# Altium integrated library MOTOR DRIVER.IntLib: 1 symbol
Pins are listed as number, name and electrical type; pins without a type are passive.

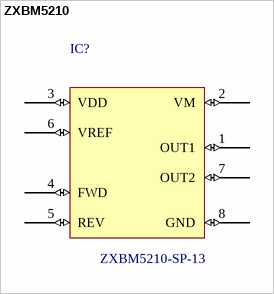
[diagram p0: symbol ZXBM5210]

## ZXBM5210
designator IC?, comment ZXBM5210-SP-13
Manufacturer: Diodes; Description: IC MOTOR DRIVER PWM 8SOIC; Interface: PWM; Logic Function: AND; Operating Supply Voltage: 18V; Supplier 1: Digi-Key; Manufacturer Part Number: ZXBM5210-SP-13; Stock 1: 0; Pricing 1: 2500=0.4606, 5000=0.4376, 12500=0.4211 (USD); Mount: Surface Mount; Min Operating Temperature: -40°C; Max Operating Temperature: 125°C; Package Quantity: 2500; Packaging: Cut Tape; Lead Free: Lead Free; ComponentLink1URL: https://datasheet.ciiva.com/29599/zxbm5210-29599456.pdf; ComponentLink1Description: https://datasheet.ciiva.com/29599/zxbm5210-29599456.pdf; ComponentLink2URL: https://datasheet.ciiva.com/30043/zxbm5210-30043882.pdf; ComponentLink2Description: https://datasheet.ciiva.com/30043/zxbm5210-30043882.pdf; ComponentLink3URL: https://datasheet.ciiva.com/29599/zxbm5210-29599455.pdf; ComponentLink3Description: https://datasheet.ciiva.com/29599/zxbm5210-29599455.pdf; Supplier Part Number 1: ZXBM5210-SP-13DITR-ND
footprint SOIC127P600X175_HS-9M (SOIC, 8-Leads, Body 4,90x3,90mm, Pitch 1,27mm, Thermal Pad 3,35x2,71mm, IPC Low Density)
pins: 1 OUT1 (io), 2 VM (io), 3 VDD (io), 4 FWD (io), 5 REV (io), 6 VREF (io), 7 OUT2 (io), 8 GND (io)